# Altium schematic symbol library ToshibaCB.SchLib: 8 symbols
Pins are listed as number, name and electrical type; pins without a type are passive.

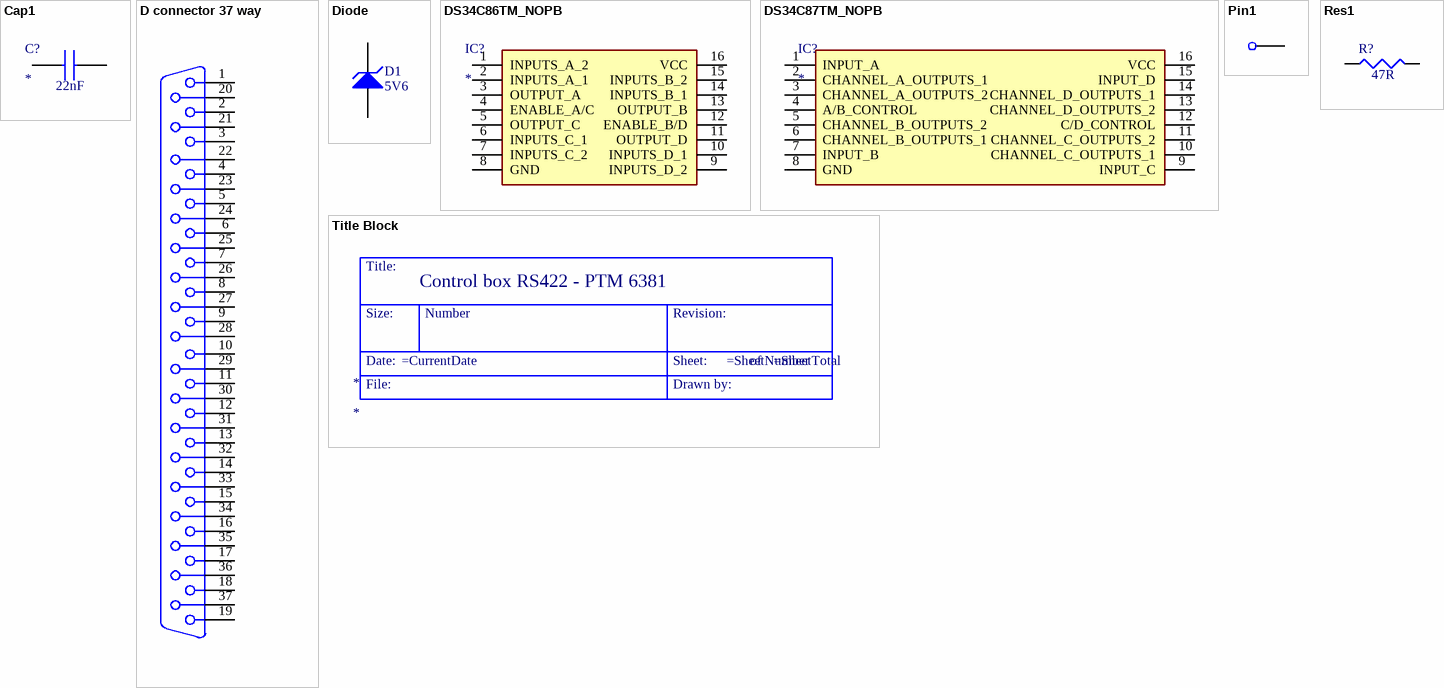
[diagram p0: symbols Cap1 to Title Block]

## Cap1
designator C?  value 22nF
Capacitor; Manufacturer_Name: AVX; Manufacturer_Part_Number: 08055C104KAT2A; Allied_Number: 70002096; Datasheet Link: http://uk.rs-online.com/web/p/products/4646688P; Height: 0.94mm; RS Part Number: 4646688P; RS Price/Stock: http://uk.rs-online.com/web/p/products/4646688P
footprint CAPC2012X94N
pins: 1, 2

## D connector 37 way
designator J?
Receptacle Assembly, 37 Position, Right Angle; PackageDocument: U; Positions: 25; Published: 15-Jun-2001; LatestRevisionDate: 17-Jul-2002; LatestRevisionNote: Re-released for DXP Platform.; DatasheetDocument: 19-Mar-1999; PackageReference: 787202; Publisher: Altium Limited; Orientation: Right Angle; Gender: Receptacle
signal-integrity model Connector
footprint D connector 37 way
pins: 1, 2, 3, 4, 5, 7, 8, 9, 10, 11, 12, 13, 14, 15, 16, 17, 18, 19, 20, 21, 22, 23, 24, 25, 26   26, 27, 28, 29, 30, 31, 32, 33, 34, 35, 36, 37,  6 6

## Diode
designator D1, comment 5V6
Zener Diode; Published: 8-Jun-2000; LatestRevisionDate: 17-Jul-2002; LatestRevisionNote: Re-released for DXP Platform.; PackageReference: DIODE-0.7; Publisher: Altium Limited; PackageDescription: Diode, Thru-Hole; 2 Leads; 0.7 in Pin Spacing
footprint Diode SOD-123
footprint Diode (DO214AC)
pins: 1 A, 2 K

## DS34C86TM_NOPB
designator IC?
Integrated Circuit; Manufacturer_Name: Texas Instruments; Manufacturer_Part_Number: DS34C86TM/NOPB; Datasheet Link: http://uk.rs-online.com/web/p/products/0460607P; Height: 1.75mm; RS Part Number: 0460607P; RS Price/Stock: http://uk.rs-online.com/web/p/products/0460607P
footprint SOIC127P600X175-16N
pins: 1 INPUTS_A_2, 2 INPUTS_A_1, 3 OUTPUT_A, 4 ENABLE_A/C, 5 OUTPUT_C, 6 INPUTS_C_1, 7 INPUTS_C_2, 8 GND, 9 INPUTS_D_2, 10 INPUTS_D_1, 11 OUTPUT_D, 12 ENABLE_B/D, 13 OUTPUT_B, 14 INPUTS_B_1, 15 INPUTS_B_2, 16 VCC

## DS34C87TM_NOPB
designator IC?
Integrated Circuit; Manufacturer_Name: Texas Instruments; Manufacturer_Part_Number: DS34C87TM/NOPB; Datasheet Link: http://uk.rs-online.com/web/p/products/0460651; Height: 1.75mm; RS Part Number: 0460651; RS Price/Stock: http://uk.rs-online.com/web/p/products/0460651
footprint SOIC127P600X175-16N
pins: 1 INPUT_A, 2 CHANNEL_A_OUTPUTS_1, 3 CHANNEL_A_OUTPUTS_2, 4 A/B_CONTROL, 5 CHANNEL_B_OUTPUTS_2, 6 CHANNEL_B_OUTPUTS_1, 7 INPUT_B, 8 GND, 9 INPUT_C, 10 CHANNEL_C_OUTPUTS_1, 11 CHANNEL_C_OUTPUTS_2, 12 C/D_CONTROL, 13 CHANNEL_D_OUTPUTS_2, 14 CHANNEL_D_OUTPUTS_1, 15 INPUT_D, 16 VCC

## Pin1
designator P?  (value not drawn)
footprint Pin1 (Pressed pin)
footprint Model Name (Footprint not found)
pins: 1

## Res1
designator R?  value 47R
0805 resistor; Published: 8-Jun-2000; LatestRevisionDate: 29-May-2009; LatestRevisionNote: IPC-7351 Footprint Added.; PackageReference: J1-0603; Publisher: Altium Limited; PackageDescription: Chip Resistor
footprint J1-0603 (Chip Resistor, Body 1.6x0.8mm, IPC High Density)
footprint 14-1210 (Chip Resistor, Body 3.2x2.5mm, IPC High Density)
footprint 12Z-2010 (Chip Resistor, Body 5.0x2.5mm, IPC High Density)
footprint RESC6332 (Chip Resistor, Body 6.3x3.2mm, IPC High Density)
simulation model RESISTOR (Resistor)
signal-integrity model Res
footprint Res1 0805
pins: 1, 2

## Title Block
designator *  (graphical)
text: Title:; Control box RS422 - PTM 6381; Size:; Number; Revision:; Date:; Sheet:; of; File:; Drawn by: